# Altium footprint library idl-fixed_new.PCBLIB: 92 footprints (part 6 of 6)
Each footprint in its own frame and in the unit in brackets; x right, y up, seen from the top. Pads: shape width x height; smd on the part's side, far side on the other; paste and mask are expansions set on the pad; w line width, h text height; cw(c..) or ccw(c..) is an arc to the next point about the centre after c.
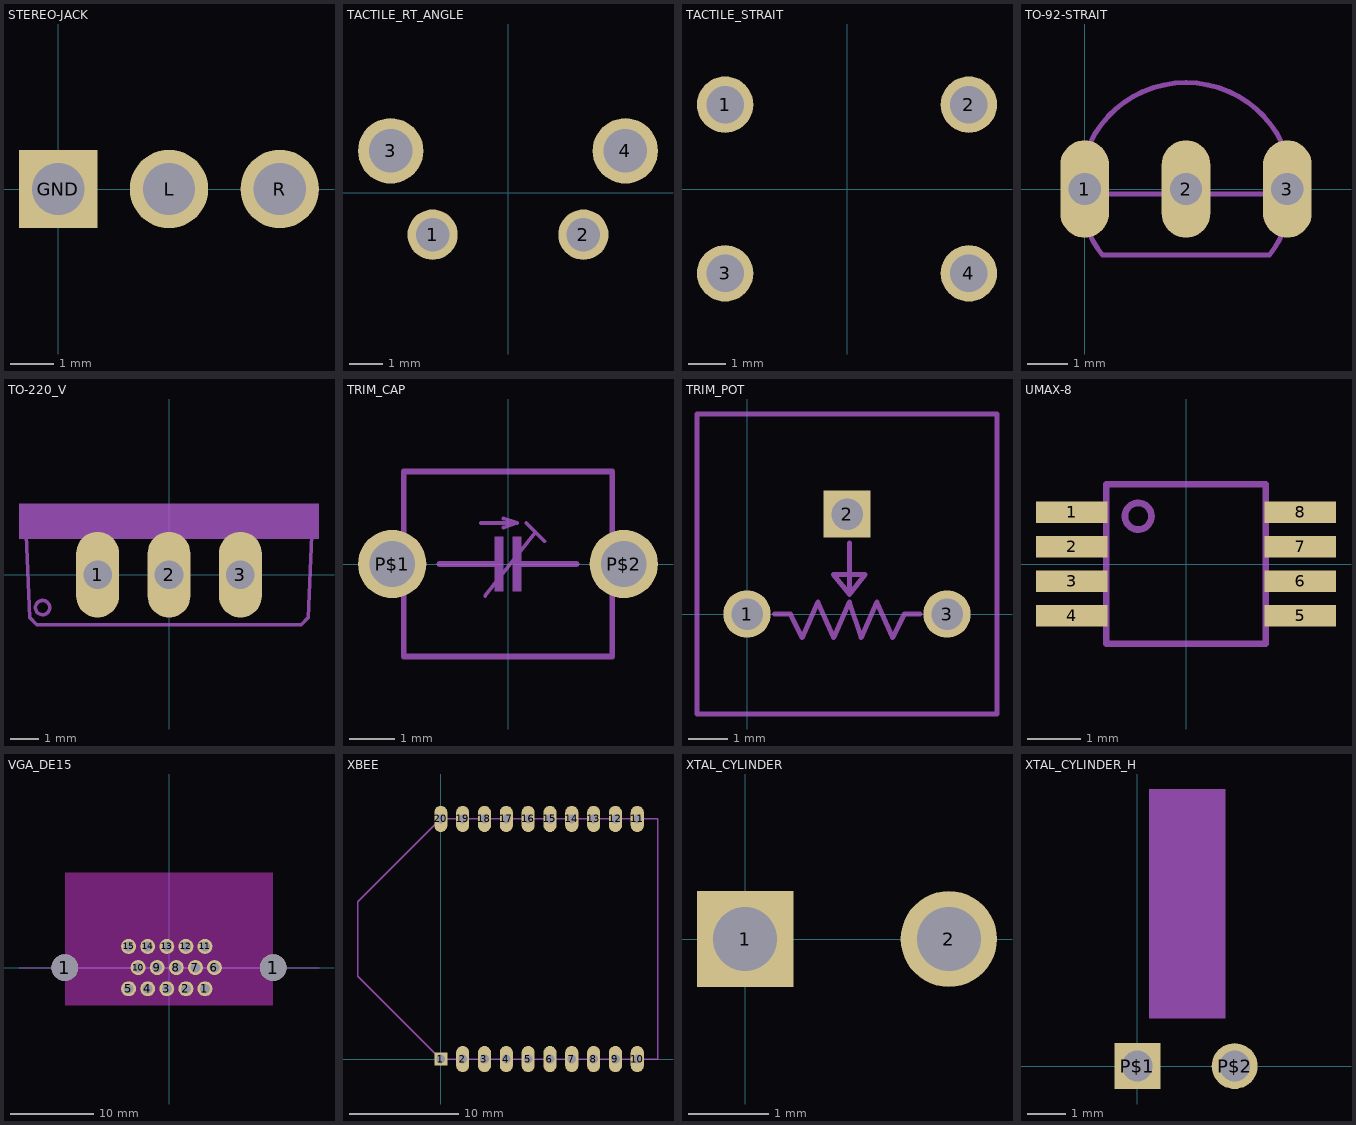
[diagram p5: the footprints below, top view; thin cyan lines are the x and y axes]

## STEREO-JACK [mil]
pads (3):
  rect 70.86x70.86 hole 47.24: GND(0,0)
  round 70.86 hole 47.24: L(100,0) R(200,0)

## TACTILE_RT_ANGLE [mm]
pads (4):
  round 1.5 hole 1: 1(-2.25,-1.25) 2(2.25,-1.25)
  round 1.95 hole 1.3: 3(-3.5,1.25) 4(3.5,1.25)

## TACTILE_STRAIT [mm]
pads (4):
  round 1.5 hole 1: 1(-3.25,2.25) 2(3.25,2.25) 3(-3.25,-2.25) 4(3.25,-2.25)

## TO-92-STRAIT [mil]
pads (3):
  oval 48x96 hole 32: 1(0,0) 2(100,0) 3(200,0)
Mechanical 2:
  lines w5: 4.98,-44.72 ccw(c99.98,0.01) 17.52,-65 182.48,-65 ccw(c100.01,0) 195.46,-43.77 ; 5,44.72 cw(c100,0) 195,44.72 ; 44.72,-5 55.28,-5 ; 144.72,-5 155.28,-5
Mechanical 18:
  lines w5: 5,-44.72 cw(c100,0) -4.88,-5 ; 5,44.72 ccw(c100,0) -4.88,-5 ; 44.72,-5 -4.88,-5 ; 55.28,-5 144.72,-5 ; 155.28,-5 204.88,-5 ; 195,-44.72 ccw(c100,0) 204.88,-5 ; 195,44.72 cw(c100,0) 204.88,-5

## TO-220_V [mil]
pads (3):
  oval 60x120 hole 40: 1(-100,0) 2(0,0) 3(100,0)
Mechanical 2:
  circle w5: c-177,-46 r10
  rectangle: -210,70 210,100
  rectangle: -210,50 -135,70
  rectangle: -65,50 -35,70
  rectangle: 35,50 65,70
  rectangle: 135,50 210,70
  lines w5: -200,55 -195,-60 -185,-70 185,-70 195,-60 200,55
Mechanical 18:
  rectangle: -135,50 -65,70
  rectangle: -35,50 35,70
  rectangle: 65,50 135,70

## TRIM_CAP [mm]
pads (2):
  round 1.5 hole 1: P$1(-2.54,0) P$2(2.54,0)
Mechanical 2:
  rectangle: -0.3,-0.6 -0.1,0.5
  rectangle: 0.1,-0.6 0.3,0.5
  rectangle: -0.3,0.3 -0.1,0.6
  rectangle: 0.1,0.3 0.3,0.6
  lines w0.081: -0.6,0.9 0.2,0.9 ; -0.5,-0.7 0.6,0.7 ; -0.1,0.8 0.2,0.9 ; -0.1,1 0.2,0.9 ; 0.4,0.9 0.6,0.7 ; 0.8,0.5 0.6,0.7
  lines w0.127: -1.5,0 -0.7,0 ; -0.6,0 -0.7,0 ; -0.3,0 -0.7,0 ; 0.3,0 1.5,0 ; -2.286,-2.032 -2.286,2.032 2.286,2.032 2.286,-2.032 -2.286,-2.032

## TRIM_POT [mil]
pads (3):
  round 47.25 hole 31.5: 1(0,0) 3(200,0)
  rect 47.25x47.25 hole 31.5: 2(100,100)
Mechanical 2:
  lines w5: 27.56,0 39.37,0 43.31,0 55.12,-23.62 70.87,11.81 86.61,-23.62 102.36,11.81 114.17,-23.62 129.92,11.81 145.67,-23.62 157.48,0 173.23,0 ; 102.36,70.87 102.36,19.69 ; 102.36,19.69 86.61,39.37 118.11,39.37 102.36,19.69 ; -50,-100 -50,200 250,200 250,-100 -50,-100

## UMAX-8 [mm]
pads (8):
  rect 1.35x0.4 smd: 1(-2.15,0.975) 2(-2.15,0.325) 3(-2.15,-0.325) 4(-2.15,-0.975) 5(2.15,-0.975) 6(2.15,-0.325) 7(2.15,0.325) 8(2.15,0.975)
Mechanical 2:
  circle w0.127: c-0.9,0.9 r0.25
  lines w0.127: -1.5,-1.5 1.5,-1.5 1.5,1.5 -1.5,1.5 -1.5,-1.5

## VGA_DE15 [mm]
pads (17):
  round 3.2 hole 3.2: 1(-12.495,0) 1(12.495,0)
  round 1.8 hole 1.2: 1(4.315,-2.54) 2(2.025,-2.54) 3(-0.265,-2.54) 4(-2.555,-2.54) 5(-4.845,-2.54) 6(5.455,0) 7(3.165,0) 8(0.875,0) 9(-1.415,0) 10(-3.705,0) 11(4.315,2.54) 12(2.025,2.54) 13(-0.265,2.54) 14(-2.555,2.54) 15(-4.845,2.54)
Keep-Out Layer:
  rectangle: -12.495,-4.57 12.495,11.43
Mechanical 18:
  lines w0: -18,0 18,0

## XBEE [mil]
pads (20):
  rect 47.25x47.25 hole 31.5: 1(0,0)
  oval 47.25x94.5 hole 31.5: 2(78.74,0) 3(157.48,0) 4(236.22,0) 5(314.96,0) 6(393.7,0) 7(472.44,0) 8(551.18,0) 9(629.92,0) 10(708.66,0) 11(708.66,866.14) 12(629.92,866.14) 13(551.18,866.14) 14(472.44,866.14) 15(393.7,866.14) 16(314.96,866.14) 17(236.22,866.14) 18(157.48,866.14) 19(78.74,866.14) 20(0,866.14)
Mechanical 2:
  lines w5: -298.82,568.9 -298.82,299.21 -277.56,277.56 ; -297.24,297.24 -277.56,277.56 ; -297.24,568.9 0,866.14 783.46,866.14 783.46,0 0,0 -277.56,277.56

## XTAL_CYLINDER [mil]
pads (2):
  rect 47.25x47.25 hole 31.5: 1(0,0)
  round 47.25 hole 31.5: 2(100,0)

## XTAL_CYLINDER_H [mil]
pads (2):
  rect 47.25x47.25 hole 31.5: P$1(0,0)
  round 47.25 hole 31.5: P$2(100,0)
Mechanical 2:
  rectangle: 11.81,48.82 90.55,285.04